# Altium schematic symbol library Analog Devices Amplifiers and Linear Voltage References.SchLib: 547 symbols (part 3 of 20)
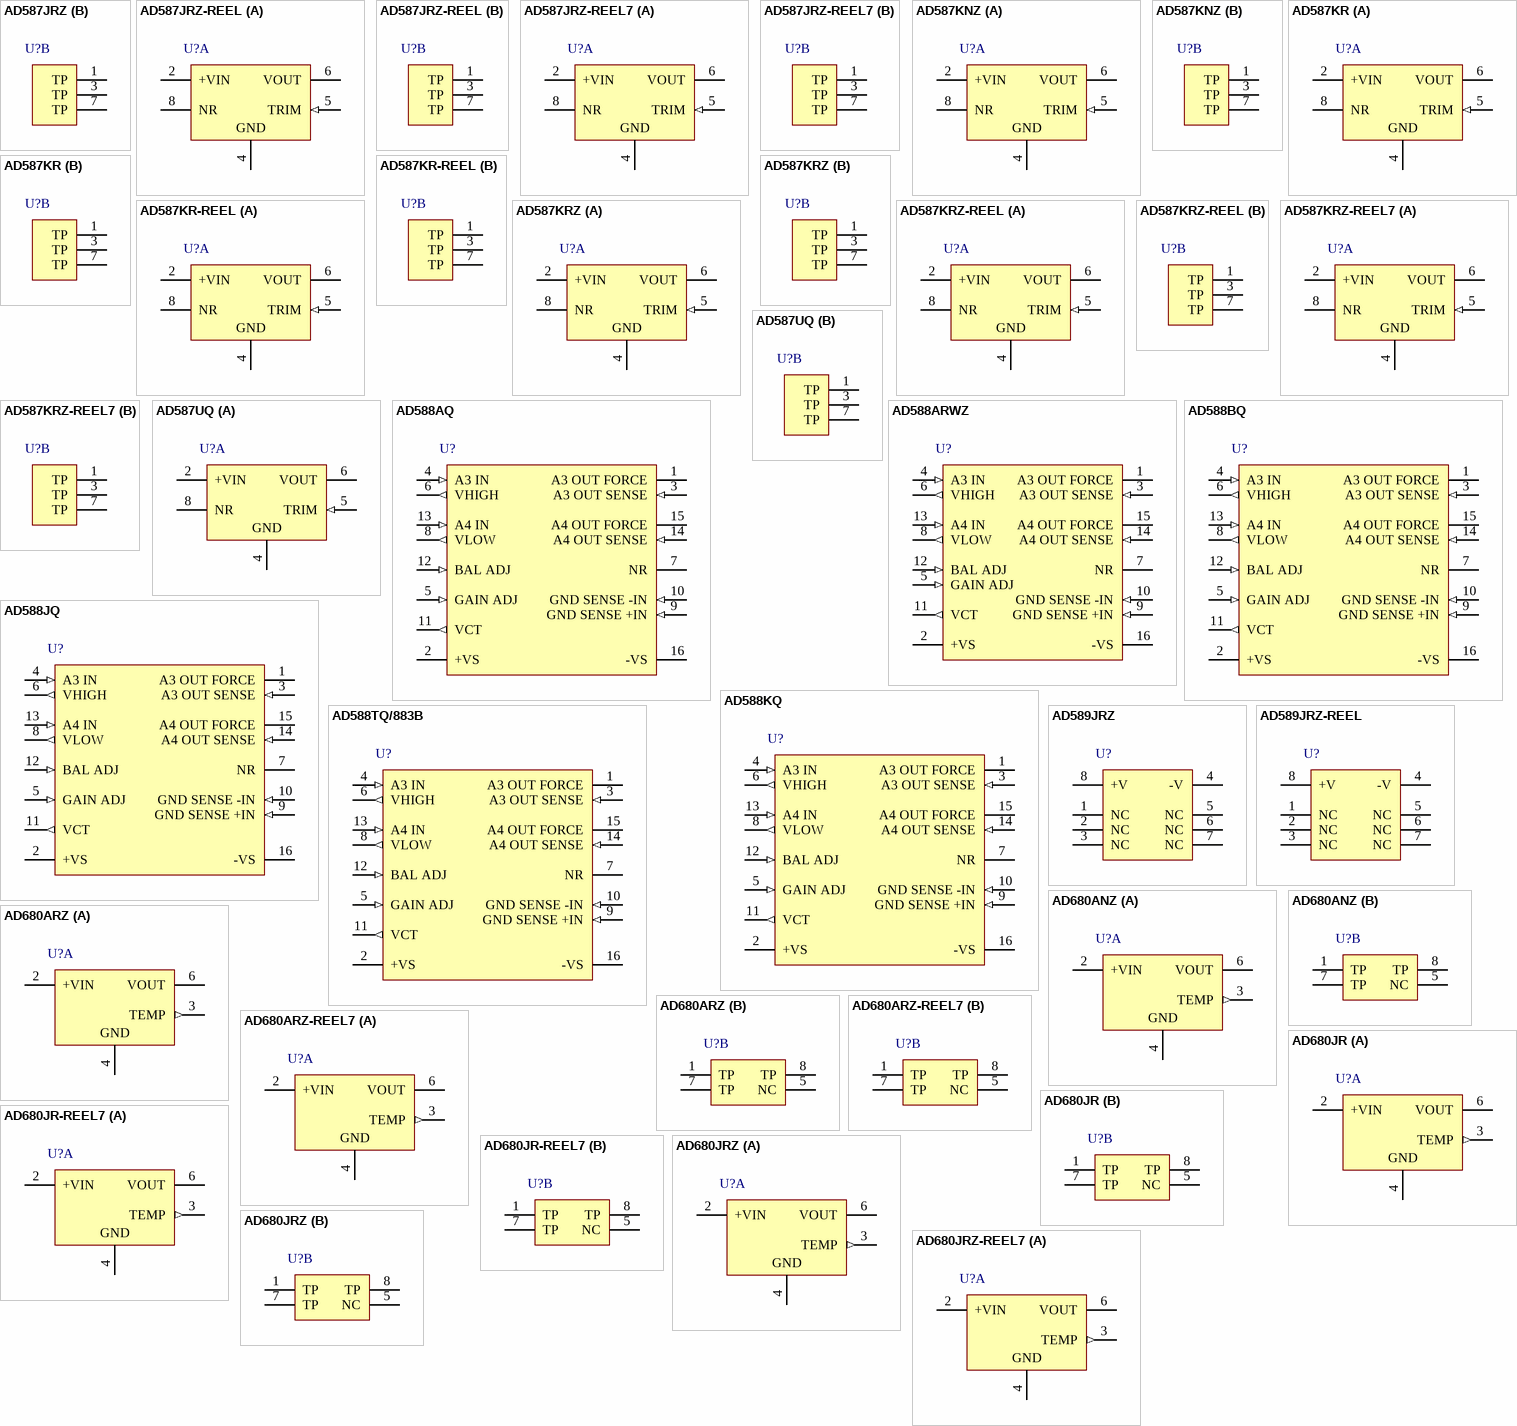
[diagram p22: symbols AD587JRZ to AD680JRZ-REEL7]

## AD588JQ
designator U?
Multiple Output, High Precision, Dual-Tracking Reference, + / - 10, + / - 5 V Output, + / - 15 V Supply, Commercial, 16-pin DIP (Q-16), Tube; Manufacturer: Analog Devices; PartNumber: AD588JQ; Ref Out TC (ppm/C): 3; Vout: +/-5V, +/-10V; DatasheetVersion: Rev. L; PackageVersion: Aug-05; PackageReference: Q-16; PackageDescription: 16-Pin Ceramic Dual In-Line Package, Row spacing 7.62 mm, Pitch 2.54 mm; Supplier 1: Digi-Key; Supplier Part Number 1: AD588JQ-ND; Supplier 2: Farnell; Supplier Part Number 2: 411700; Supplier 3: Mouser; Supplier Part Number 3: 584-AD588JQ; Packing: Tube; Operating Temp Range: 0 to 70 degC; Mounting Technology: Through Hole; ComponentLink1Description: Manufacturer URL; ComponentLink1URL: http://www.analog.com/en/index.html; ComponentLink2Description: Datasheet; ComponentLink2URL: http://www.analog.com/static/imported-files/data_sheets/AD588.pdf; ComponentLink3Description: Package Specification; ComponentLink3URL: http://www.analog.com/static/imported-files/packages/54083157002221Q_16.pdf; ComponentLink4Description: URL Link1; ComponentLink4URL: Product URL:http://www.analog.com/en/special-linear-functions/voltage-references/ad588/products/product.html
footprint ADI-Q-16 (DIP, 16-Leads, Body 21.34x6.73mm, Pitch 2.54mm)
pins: 1 A3 OUT FORCE (power) "Output from Buffering Amplifier 3 with Kelvin Force. Connect to Pin 3.", 2 +VS (power) "Positive Power Supply.", 3 A3 OUT SENSE (in) "Output from Buffering Amplifier 3 with Kelvin Sense. Connect to Pin 1.", 4 A3 IN (in) "+ Input to Amplifier 3. Connect to VHIGH, Pin 6.", 5 GAIN ADJ (in) "Reference Gain Adjustment for Calibration. See the Calibration section.", 6 VHIGH (out) "Unbuffered Reference High Output.", 7 NR "Noise Filtering Pin. Connect external 1 uF capacitor to ground to reduce the output noise (see the Noise Performance and Reduction section). Can be left open.", 8 VLOW (out) "Unbuffered Reference Low Output.", 9 GND SENSE +IN (in) "+ Input to the Ground Sense Amplifier.", 10 GND SENSE -IN (in) "- Input to the Ground Sense Amplifier.", 11 VCT (out) "Center Tap Voltage used for Calibration. See the Calibration section.", 12 BAL ADJ (in) "Reference Centering Adjustment for Calibration. See the Calibration section.", 13 A4 IN (in) "+ Input to Amplifier 4. Connect to VLOW, Pin 8.", 14 A4 OUT SENSE (in) "Output of Buffering Amplifier 4 with Kelvin Sense. Connect to Pin 15.", 15 A4 OUT FORCE (power) "Output of Buffering Amplifier 4 with Kelvin Force. Connect to Pin 14.", 16 -VS (power) "Negative Power Supply."

## AD588KQ
designator U?
Multiple Output, High Precision, Dual-Tracking Reference, + / - 10, + / - 5 V Output, + / - 15 V Supply, Commercial, 16-pin DIP (Q-16), Tube; Manufacturer: Analog Devices; PartNumber: AD588KQ; Ref Out TC (ppm/C): 1.5; Vout: +/-5V, +/-10V; DatasheetVersion: Rev. L; PackageVersion: Aug-05; PackageReference: Q-16; PackageDescription: 16-Pin Ceramic Dual In-Line Package, Row spacing 7.62 mm, Pitch 2.54 mm; Supplier 1: Digi-Key; Supplier Part Number 1: AD588KQ-ND; Supplier 2: Mouser; Supplier Part Number 2: 584-AD588KQ; Packing: Tube; Operating Temp Range: 0 to 70 degC; Mounting Technology: Through Hole; ComponentLink1Description: Manufacturer URL; ComponentLink1URL: http://www.analog.com/en/index.html; ComponentLink2Description: Datasheet; ComponentLink2URL: http://www.analog.com/static/imported-files/data_sheets/AD588.pdf; ComponentLink3Description: Package Specification; ComponentLink3URL: http://www.analog.com/static/imported-files/packages/54083157002221Q_16.pdf; ComponentLink4Description: URL Link1; ComponentLink4URL: Product URL:http://www.analog.com/en/special-linear-functions/voltage-references/ad588/products/product.html
footprint ADI-Q-16 (DIP, 16-Leads, Body 21.34x6.73mm, Pitch 2.54mm)
pins: 1 A3 OUT FORCE (power) "Output from Buffering Amplifier 3 with Kelvin Force. Connect to Pin 3.", 2 +VS (power) "Positive Power Supply.", 3 A3 OUT SENSE (in) "Output from Buffering Amplifier 3 with Kelvin Sense. Connect to Pin 1.", 4 A3 IN (in) "+ Input to Amplifier 3. Connect to VHIGH, Pin 6.", 5 GAIN ADJ (in) "Reference Gain Adjustment for Calibration. See the Calibration section.", 6 VHIGH (out) "Unbuffered Reference High Output.", 7 NR "Noise Filtering Pin. Connect external 1 uF capacitor to ground to reduce the output noise (see the Noise Performance and Reduction section). Can be left open.", 8 VLOW (out) "Unbuffered Reference Low Output.", 9 GND SENSE +IN (in) "+ Input to the Ground Sense Amplifier.", 10 GND SENSE -IN (in) "- Input to the Ground Sense Amplifier.", 11 VCT (out) "Center Tap Voltage used for Calibration. See the Calibration section.", 12 BAL ADJ (in) "Reference Centering Adjustment for Calibration. See the Calibration section.", 13 A4 IN (in) "+ Input to Amplifier 4. Connect to VLOW, Pin 8.", 14 A4 OUT SENSE (in) "Output of Buffering Amplifier 4 with Kelvin Sense. Connect to Pin 15.", 15 A4 OUT FORCE (power) "Output of Buffering Amplifier 4 with Kelvin Force. Connect to Pin 14.", 16 -VS (power) "Negative Power Supply."

## AD588TQ/883B
designator U?
Multiple Output, High Precision, Dual-Tracking Reference, + / - 10, + / - 5 V Output, + / - 15 V Supply, Military, 16-pin DIP (Q-16), Tube; Manufacturer: Analog Devices; PartNumber: AD588TQ/883B; Vout: +/-5V, +/-10V; DatasheetVersion: Rev. L; PackageVersion: Aug-05; PackageReference: Q-16; PackageDescription: 16-Pin Ceramic Dual In-Line Package, Row spacing 7.62 mm, Pitch 2.54 mm; Supplier 1: Mouser; Supplier Part Number 1: 584-AD588TQ883B; Packing: Tube; Mounting Technology: Through Hole; ComponentLink1Description: Manufacturer URL; ComponentLink1URL: http://www.analog.com/en/index.html; ComponentLink2Description: Datasheet; ComponentLink2URL: http://www.analog.com/static/imported-files/data_sheets/AD588.pdf; ComponentLink3Description: Package Specification; ComponentLink3URL: http://www.analog.com/static/imported-files/packages/54083157002221Q_16.pdf; ComponentLink4Description: URL Link1; ComponentLink4URL: Product URL:http://www.analog.com/en/special-linear-functions/voltage-references/ad588/products/product.html
footprint ADI-Q-16 (DIP, 16-Leads, Body 21.34x6.73mm, Pitch 2.54mm)
pins: 1 A3 OUT FORCE (power) "Output from Buffering Amplifier 3 with Kelvin Force. Connect to Pin 3.", 2 +VS (power) "Positive Power Supply.", 3 A3 OUT SENSE (in) "Output from Buffering Amplifier 3 with Kelvin Sense. Connect to Pin 1.", 4 A3 IN (in) "+ Input to Amplifier 3. Connect to VHIGH, Pin 6.", 5 GAIN ADJ (in) "Reference Gain Adjustment for Calibration. See the Calibration section.", 6 VHIGH (out) "Unbuffered Reference High Output.", 7 NR "Noise Filtering Pin. Connect external 1 uF capacitor to ground to reduce the output noise (see the Noise Performance and Reduction section). Can be left open.", 8 VLOW (out) "Unbuffered Reference Low Output.", 9 GND SENSE +IN (in) "+ Input to the Ground Sense Amplifier.", 10 GND SENSE -IN (in) "- Input to the Ground Sense Amplifier.", 11 VCT (out) "Center Tap Voltage used for Calibration. See the Calibration section.", 12 BAL ADJ (in) "Reference Centering Adjustment for Calibration. See the Calibration section.", 13 A4 IN (in) "+ Input to Amplifier 4. Connect to VLOW, Pin 8.", 14 A4 OUT SENSE (in) "Output of Buffering Amplifier 4 with Kelvin Sense. Connect to Pin 15.", 15 A4 OUT FORCE (power) "Output of Buffering Amplifier 4 with Kelvin Force. Connect to Pin 14.", 16 -VS (power) "Negative Power Supply."

## AD589JRZ
designator U?
2-Terminal IC 1.2 V Reference, 1.235 V Output, Commercial, 8-pin SOIC (R-8), Tube; Manufacturer: Analog Devices; PartNumber: AD589JRZ; Ref Out TC (ppm/C): 100; Vout: 1.235V; DatasheetVersion: Rev. C; PackageVersion: 060506-A, 06/2006; PackageReference: R-8; PackageDescription: 8-Pin Standard Small Outline Package, Body 4.9 x 3.9 mm, Pitch 1.27 mm; Supplier 1: Digi-Key; Supplier Part Number 1: AD589JRZ-ND; Supplier 2: Mouser; Supplier Part Number 2: 584-AD589JRZ; Packing: Tube; Operating Temp Range: 0 to 70 degC; Mounting Technology: Surface Mount; Code_JEDEC: MS-012-AA; ComponentLink1Description: Manufacturer URL; ComponentLink1URL: http://www.analog.com/en/index.html; ComponentLink2Description: Datasheet; ComponentLink2URL: http://www.analog.com/static/imported-files/data_sheets/AD589.pdf; ComponentLink3Description: Package Specification; ComponentLink3URL: http://www.analog.com/static/imported-files/packages/PKG_PDF/SOIC_Narrow%20(R)/R_8.pdf; ComponentLink4Description: URL Link1; ComponentLink4URL: Product URL:http://www.analog.com/en/special-linear-functions/voltage-references/ad589/products/product.html
footprint ADI-R-8_N (SOIC, 8-Leads, Body 4.9x3.9mm, Pitch 1.27mm, IPC Medium Density)
footprint ADI-R-8_L (SOIC, 8-Leads, Body 4.9x3.9mm, Pitch 1.27mm, IPC High Density)
footprint ADI-R-8_M (SOIC, 8-Leads, Body 4.9x3.9mm, Pitch 1.27mm, IPC Low Density)
pins: 1 NC, 2 NC, 3 NC, 4 -V (power), 5 NC, 6 NC, 7 NC, 8 +V (power)

## AD589JRZ-REEL
designator U?
2-Terminal IC 1.2 V Reference, 1.235 V Output, Commercial, 8-pin SOIC (R-8), Reel; Manufacturer: Analog Devices; PartNumber: AD589JRZ-REEL; Ref Out TC (ppm/C): 100; Vout: 1.235V; DatasheetVersion: Rev. C; PackageVersion: 060506-A, 06/2006; PackageReference: R-8; PackageDescription: 8-Pin Standard Small Outline Package, Body 4.9 x 3.9 mm, Pitch 1.27 mm; Supplier 1: Digi-Key; Supplier Part Number 1: AD589JRZ-REELTR-ND; Supplier 2: Digi-Key; Supplier Part Number 2: AD589JRZ-REELCT-ND; Supplier 3: Digi-Key; Supplier Part Number 3: AD589JRZ-REELDKR-ND; Supplier 4: Mouser; Supplier Part Number 4: 584-AD589JRZ-R; Packing: Reel; Operating Temp Range: 0 to 70 degC; Mounting Technology: Surface Mount; Code_JEDEC: MS-012-AA; ComponentLink1Description: Manufacturer URL; ComponentLink1URL: http://www.analog.com/en/index.html; ComponentLink2Description: Datasheet; ComponentLink2URL: http://www.analog.com/static/imported-files/data_sheets/AD589.pdf; ComponentLink3Description: Package Specification; ComponentLink3URL: http://www.analog.com/static/imported-files/packages/PKG_PDF/SOIC_Narrow%20(R)/R_8.pdf; ComponentLink4Description: URL Link1; ComponentLink4URL: Product URL:http://www.analog.com/en/special-linear-functions/voltage-references/ad589/products/product.html
footprint ADI-R-8_N (SOIC, 8-Leads, Body 4.9x3.9mm, Pitch 1.27mm, IPC Medium Density)
footprint ADI-R-8_L (SOIC, 8-Leads, Body 4.9x3.9mm, Pitch 1.27mm, IPC High Density)
footprint ADI-R-8_M (SOIC, 8-Leads, Body 4.9x3.9mm, Pitch 1.27mm, IPC Low Density)
pins: 1 NC, 2 NC, 3 NC, 4 -V (power), 5 NC, 6 NC, 7 NC, 8 +V (power)

## AD680ANZ
designator U?
Low Power, Low Cost Reference, 2.5 V Output, 4.5 to 36 V Supply, Industrial, 8-pin DIP (N-8), Tube; Manufacturer: Analog Devices; PartNumber: AD680ANZ; Max V Supply (V): 36; Min V Supply (V): 4.5; Ref Out TC (ppm/C): 20; Vout: 2.5V; DatasheetVersion: Rev. H; PackageVersion: 070606-A, 07/2006; PackageReference: N-8; PackageDescription: 8-Pin Plastic Dual In-Line Package, Row spacing 7.62 mm, Pitch 2.54 mm; Supplier 1: Digi-Key; Supplier Part Number 1: AD680ANZ-ND; Supplier 2: Farnell; Supplier Part Number 2: 2305766; Supplier 3: Mouser; Supplier Part Number 3: 584-AD680ANZ; Packing: Tube; Operating Temp Range: -40 to 85 degC; Mounting Technology: Through Hole; Code_JEDEC: MS-001; ComponentLink1Description: Manufacturer URL; ComponentLink1URL: http://www.analog.com/en/index.html; ComponentLink2Description: Datasheet; ComponentLink2URL: http://www.analog.com/static/imported-files/data_sheets/AD680.pdf; ComponentLink3Description: Package Specification; ComponentLink3URL: http:/www.analog.com/static/imported-files/packages/PKG_PDF/PDIP(N)/N_8.pdf; ComponentLink4Description: URL Link1; ComponentLink4URL: Product URL:http://www.analog.com/en/special-linear-functions/voltage-references/ad680/products/product.html
footprint ADI-N-8 (DIP, 8-Leads, Body 9.59x6.6mm, Pitch 2.54mm)
part A pins: 2 +VIN (power) "Input Voltage.", 3 TEMP (out) "Temperature Output.", 4 GND (power) "Ground.", 6 VOUT (power) "Output Voltage."
part B pins: 1 TP "Test Point. A factory test point. No connections are made to these pins.", 5 NC "No Connect.", 7 TP "Test Point. A factory test point. No connections are made to these pins.", 8 TP "Test Point. A factory test point. No connections are made to these pins."

## AD680ARZ
designator U?
Low Power, Low Cost Reference, 2.5 V Output, 4.5 to 36 V Supply, Industrial, 8-pin SOIC (R-8), Tube; Manufacturer: Analog Devices; PartNumber: AD680ARZ; Max V Supply (V): 36; Min V Supply (V): 4.5; Ref Out TC (ppm/C): 20; Vout: 2.5V; DatasheetVersion: Rev. H; PackageVersion: 060506-A, 06/2006; PackageReference: R-8; PackageDescription: 8-Pin Standard Small Outline Package, Body 4.9 x 3.9 mm, Pitch 1.27 mm; Supplier 1: Digi-Key; Supplier Part Number 1: AD680ARZ-ND; Supplier 2: Farnell; Supplier Part Number 2: 1838916; Supplier 3: Mouser; Supplier Part Number 3: 584-AD680ARZ; Packing: Tube; Operating Temp Range: -40 to 85 degC; Mounting Technology: Surface Mount; Code_JEDEC: MS-012-AA; ComponentLink1Description: Manufacturer URL; ComponentLink1URL: http://www.analog.com/en/index.html; ComponentLink2Description: Datasheet; ComponentLink2URL: http://www.analog.com/static/imported-files/data_sheets/AD680.pdf; ComponentLink3Description: Package Specification; ComponentLink3URL: http://www.analog.com/static/imported-files/packages/PKG_PDF/SOIC_Narrow%20(R)/R_8.pdf; ComponentLink4Description: URL Link1; ComponentLink4URL: Product URL:http://www.analog.com/en/special-linear-functions/voltage-references/ad680/products/product.html
footprint ADI-R-8_N (SOIC, 8-Leads, Body 4.9x3.9mm, Pitch 1.27mm, IPC Medium Density)
footprint ADI-R-8_L (SOIC, 8-Leads, Body 4.9x3.9mm, Pitch 1.27mm, IPC High Density)
footprint ADI-R-8_M (SOIC, 8-Leads, Body 4.9x3.9mm, Pitch 1.27mm, IPC Low Density)
part A pins: 2 +VIN (power) "Input Voltage.", 3 TEMP (out) "Temperature Output.", 4 GND (power) "Ground.", 6 VOUT (power) "Output Voltage."
part B pins: 1 TP "Test Point. A factory test point. No connections are made to these pins.", 5 NC "No Connect.", 7 TP "Test Point. A factory test point. No connections are made to these pins.", 8 TP "Test Point. A factory test point. No connections are made to these pins."

## AD680ARZ-REEL7
designator U?
Low Power, Low Cost Reference, 2.5 V Output, 4.5 to 36 V Supply, Industrial, 8-pin SOIC (R-8), Reel; Manufacturer: Analog Devices; PartNumber: AD680ARZ-REEL7; Max V Supply (V): 36; Min V Supply (V): 4.5; Ref Out TC (ppm/C): 20; Vout: 2.5V; DatasheetVersion: Rev. H; PackageVersion: 060506-A, 06/2006; PackageReference: R-8; PackageDescription: 8-Pin Standard Small Outline Package, Body 4.9 x 3.9 mm, Pitch 1.27 mm; Supplier 1: Digi-Key; Supplier Part Number 1: AD680ARZ-REEL7TR-ND; Supplier 2: Digi-Key; Supplier Part Number 2: AD680ARZ-REEL7CT-ND; Supplier 3: Digi-Key; Supplier Part Number 3: AD680ARZ-REEL7DKR-ND; Supplier 4: Mouser; Supplier Part Number 4: 584-AD680ARZ-R7; Packing: Reel; Operating Temp Range: -40 to 85 degC; Mounting Technology: Surface Mount; Code_JEDEC: MS-012-AA; ComponentLink1Description: Manufacturer URL; ComponentLink1URL: http://www.analog.com/en/index.html; ComponentLink2Description: Datasheet; ComponentLink2URL: http://www.analog.com/static/imported-files/data_sheets/AD680.pdf; ComponentLink3Description: Package Specification; ComponentLink3URL: http://www.analog.com/static/imported-files/packages/PKG_PDF/SOIC_Narrow%20(R)/R_8.pdf; ComponentLink4Description: URL Link1; ComponentLink4URL: Product URL:http://www.analog.com/en/special-linear-functions/voltage-references/ad680/products/product.html
footprint ADI-R-8_N (SOIC, 8-Leads, Body 4.9x3.9mm, Pitch 1.27mm, IPC Medium Density)
footprint ADI-R-8_L (SOIC, 8-Leads, Body 4.9x3.9mm, Pitch 1.27mm, IPC High Density)
footprint ADI-R-8_M (SOIC, 8-Leads, Body 4.9x3.9mm, Pitch 1.27mm, IPC Low Density)
part A pins: 2 +VIN (power) "Input Voltage.", 3 TEMP (out) "Temperature Output.", 4 GND (power) "Ground.", 6 VOUT (power) "Output Voltage."
part B pins: 1 TP "Test Point. A factory test point. No connections are made to these pins.", 5 NC "No Connect.", 7 TP "Test Point. A factory test point. No connections are made to these pins.", 8 TP "Test Point. A factory test point. No connections are made to these pins."

## AD680JR
designator U?
Low Power, Low Cost Reference, 2.5 V Output, 4.5 to 36 V Supply, Commercial, 8-pin SOIC (R-8), Tube; Manufacturer: Analog Devices; PartNumber: AD680JR; Max V Supply (V): 36; Min V Supply (V): 4.5; Ref Out TC (ppm/C): 10; Vout: 2.5V; DatasheetVersion: Rev. H; PackageVersion: 060506-A, 06/2006; PackageReference: R-8; PackageDescription: 8-Pin Standard Small Outline Package, Body 4.9 x 3.9 mm, Pitch 1.27 mm; Supplier 1: Digi-Key; Supplier Part Number 1: AD680JR-ND; Supplier 2: Farnell; Supplier Part Number 2: 1017960; Supplier 3: Mouser; Supplier Part Number 3: N/A; Packing: Tube; Operating Temp Range: 0 to 70 degC; Mounting Technology: Surface Mount; Code_JEDEC: MS-012-AA; ComponentLink1Description: Manufacturer URL; ComponentLink1URL: http://www.analog.com/en/index.html; ComponentLink2Description: Datasheet; ComponentLink2URL: http://www.analog.com/static/imported-files/data_sheets/AD680.pdf; ComponentLink3Description: Package Specification; ComponentLink3URL: http://www.analog.com/static/imported-files/packages/PKG_PDF/SOIC_Narrow%20(R)/R_8.pdf; ComponentLink4Description: URL Link1; ComponentLink4URL: Product URL:http://www.analog.com/en/special-linear-functions/voltage-references/ad680/products/product.html
footprint ADI-R-8_N (SOIC, 8-Leads, Body 4.9x3.9mm, Pitch 1.27mm, IPC Medium Density)
footprint ADI-R-8_L (SOIC, 8-Leads, Body 4.9x3.9mm, Pitch 1.27mm, IPC High Density)
footprint ADI-R-8_M (SOIC, 8-Leads, Body 4.9x3.9mm, Pitch 1.27mm, IPC Low Density)
part A pins: 2 +VIN (power) "Input Voltage.", 3 TEMP (out) "Temperature Output.", 4 GND (power) "Ground.", 6 VOUT (power) "Output Voltage."
part B pins: 1 TP "Test Point. A factory test point. No connections are made to these pins.", 5 NC "No Connect.", 7 TP "Test Point. A factory test point. No connections are made to these pins.", 8 TP "Test Point. A factory test point. No connections are made to these pins."

## AD680JR-REEL7
designator U?
Low Power, Low Cost Reference, 2.5 V Output, 4.5 to 36 V Supply, Commercial, 8-pin SOIC (R-8), Reel; Manufacturer: Analog Devices; PartNumber: AD680JR-REEL7; Max V Supply (V): 36; Min V Supply (V): 4.5; Ref Out TC (ppm/C): 10; Vout: 2.5V; DatasheetVersion: Rev. H; PackageVersion: 060506-A, 06/2006; PackageReference: R-8; PackageDescription: 8-Pin Standard Small Outline Package, Body 4.9 x 3.9 mm, Pitch 1.27 mm; Supplier 1: Digi-Key; Supplier Part Number 1: AD680JR-REEL7TR-ND; Supplier 2: Digi-Key; Supplier Part Number 2: AD680JR-REEL7CT-ND; Supplier 3: Digi-Key; Supplier Part Number 3: AD680JR-REEL7DKR-ND; Supplier 4: Mouser; Supplier Part Number 4: N/A; Packing: Reel; Operating Temp Range: 0 to 70 degC; Mounting Technology: Surface Mount; Code_JEDEC: MS-012-AA; ComponentLink1Description: Manufacturer URL; ComponentLink1URL: http://www.analog.com/en/index.html; ComponentLink2Description: Datasheet; ComponentLink2URL: http://www.analog.com/static/imported-files/data_sheets/AD680.pdf; ComponentLink3Description: Package Specification; ComponentLink3URL: http://www.analog.com/static/imported-files/packages/PKG_PDF/SOIC_Narrow%20(R)/R_8.pdf; ComponentLink4Description: URL Link1; ComponentLink4URL: Product URL:http://www.analog.com/en/special-linear-functions/voltage-references/ad680/products/product.html
footprint ADI-R-8_N (SOIC, 8-Leads, Body 4.9x3.9mm, Pitch 1.27mm, IPC Medium Density)
footprint ADI-R-8_L (SOIC, 8-Leads, Body 4.9x3.9mm, Pitch 1.27mm, IPC High Density)
footprint ADI-R-8_M (SOIC, 8-Leads, Body 4.9x3.9mm, Pitch 1.27mm, IPC Low Density)
part A pins: 2 +VIN (power) "Input Voltage.", 3 TEMP (out) "Temperature Output.", 4 GND (power) "Ground.", 6 VOUT (power) "Output Voltage."
part B pins: 1 TP "Test Point. A factory test point. No connections are made to these pins.", 5 NC "No Connect.", 7 TP "Test Point. A factory test point. No connections are made to these pins.", 8 TP "Test Point. A factory test point. No connections are made to these pins."

## AD680JRZ
designator U?
Low Power, Low Cost Reference, 2.5 V Output, 4.5 to 36 V Supply, Commercial, 8-pin SOIC (R-8), Tube; Manufacturer: Analog Devices; PartNumber: AD680JRZ; Max V Supply (V): 36; Min V Supply (V): 4.5; Ref Out TC (ppm/C): 10; Vout: 2.5V; DatasheetVersion: Rev. H; PackageVersion: 060506-A, 06/2006; PackageReference: R-8; PackageDescription: 8-Pin Standard Small Outline Package, Body 4.9 x 3.9 mm, Pitch 1.27 mm; Supplier 1: Digi-Key; Supplier Part Number 1: AD680JRZ-ND; Supplier 2: Farnell; Supplier Part Number 2: 2305767; Supplier 3: Farnell; Supplier Part Number 3: 1264337; Supplier 4: Mouser; Supplier Part Number 4: 584-AD680JRZ; Packing: Tube; Operating Temp Range: 0 to 70 degC; Mounting Technology: Surface Mount; Code_JEDEC: MS-012-AA; ComponentLink1Description: Manufacturer URL; ComponentLink1URL: http://www.analog.com/en/index.html; ComponentLink2Description: Datasheet; ComponentLink2URL: http://www.analog.com/static/imported-files/data_sheets/AD680.pdf; ComponentLink3Description: Package Specification; ComponentLink3URL: http://www.analog.com/static/imported-files/packages/PKG_PDF/SOIC_Narrow%20(R)/R_8.pdf; ComponentLink4Description: URL Link1; ComponentLink4URL: Product URL:http://www.analog.com/en/special-linear-functions/voltage-references/ad680/products/product.html
footprint ADI-R-8_N (SOIC, 8-Leads, Body 4.9x3.9mm, Pitch 1.27mm, IPC Medium Density)
footprint ADI-R-8_L (SOIC, 8-Leads, Body 4.9x3.9mm, Pitch 1.27mm, IPC High Density)
footprint ADI-R-8_M (SOIC, 8-Leads, Body 4.9x3.9mm, Pitch 1.27mm, IPC Low Density)
part A pins: 2 +VIN (power) "Input Voltage.", 3 TEMP (out) "Temperature Output.", 4 GND (power) "Ground.", 6 VOUT (power) "Output Voltage."
part B pins: 1 TP "Test Point. A factory test point. No connections are made to these pins.", 5 NC "No Connect.", 7 TP "Test Point. A factory test point. No connections are made to these pins.", 8 TP "Test Point. A factory test point. No connections are made to these pins."

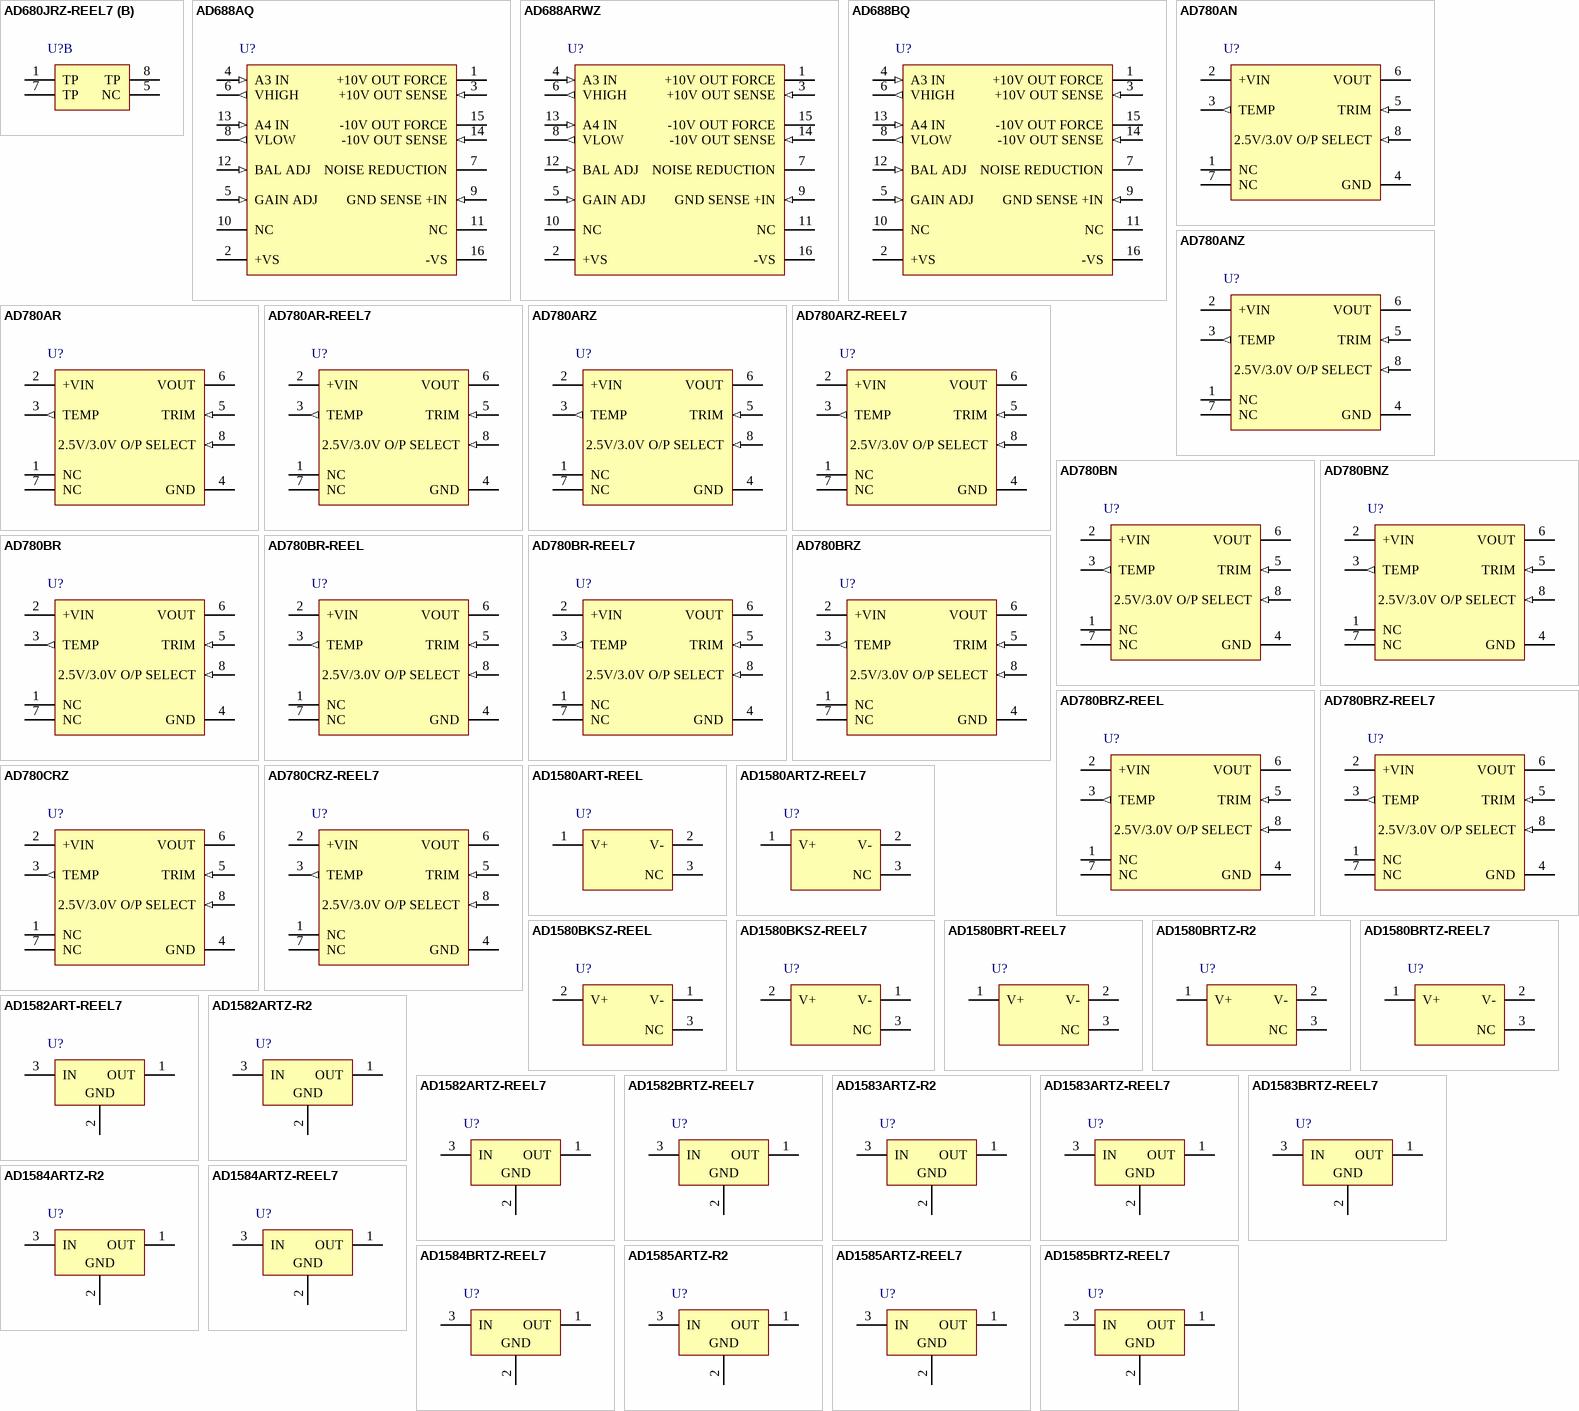
[diagram p3: symbols AD680JRZ-REEL7 to AD1585BRTZ-REEL7]

## AD680JRZ-REEL7
designator U?
Low Power, Low Cost Reference, 2.5 V Output, 4.5 to 36 V Supply, Commercial, 8-pin SOIC (R-8), Reel; Manufacturer: Analog Devices; PartNumber: AD680JRZ-REEL7; Max V Supply (V): 36; Min V Supply (V): 4.5; Ref Out TC (ppm/C): 10; Vout: 2.5V; DatasheetVersion: Rev. H; PackageVersion: 060506-A, 06/2006; PackageReference: R-8; PackageDescription: 8-Pin Standard Small Outline Package, Body 4.9 x 3.9 mm, Pitch 1.27 mm; Supplier 1: Digi-Key; Supplier Part Number 1: AD680JRZ-REEL7TR-ND; Supplier 2: Digi-Key; Supplier Part Number 2: AD680JRZ-REEL7CT-ND; Supplier 3: Digi-Key; Supplier Part Number 3: AD680JRZ-REEL7DKR-ND; Supplier 4: Mouser; Supplier Part Number 4: 584-AD680JRZ-R7; Packing: Reel; Operating Temp Range: 0 to 70 degC; Mounting Technology: Surface Mount; Code_JEDEC: MS-012-AA; ComponentLink1Description: Manufacturer URL; ComponentLink1URL: http://www.analog.com/en/index.html; ComponentLink2Description: Datasheet; ComponentLink2URL: http://www.analog.com/static/imported-files/data_sheets/AD680.pdf; ComponentLink3Description: Package Specification; ComponentLink3URL: http://www.analog.com/static/imported-files/packages/PKG_PDF/SOIC_Narrow%20(R)/R_8.pdf; ComponentLink4Description: URL Link1; ComponentLink4URL: Product URL:http://www.analog.com/en/special-linear-functions/voltage-references/ad680/products/product.html
footprint ADI-R-8_N (SOIC, 8-Leads, Body 4.9x3.9mm, Pitch 1.27mm, IPC Medium Density)
footprint ADI-R-8_L (SOIC, 8-Leads, Body 4.9x3.9mm, Pitch 1.27mm, IPC High Density)
footprint ADI-R-8_M (SOIC, 8-Leads, Body 4.9x3.9mm, Pitch 1.27mm, IPC Low Density)
part A pins: 2 +VIN (power) "Input Voltage.", 3 TEMP (out) "Temperature Output.", 4 GND (power) "Ground.", 6 VOUT (power) "Output Voltage."
part B pins: 1 TP "Test Point. A factory test point. No connections are made to these pins.", 5 NC "No Connect.", 7 TP "Test Point. A factory test point. No connections are made to these pins.", 8 TP "Test Point. A factory test point. No connections are made to these pins."

## AD688AQ
designator U?
High Precision Reference, 10 V Output, + / - 15 V Supply, Industrial, 16-pin DIP (Q-16), Tube; Manufacturer: Analog Devices; PartNumber: AD688AQ; Ref Out TC (ppm/C): 3; Vout: +/-10V; DatasheetVersion: Rev. B; PackageVersion: Aug-05; PackageReference: Q-16; PackageDescription: 16-Pin Ceramic Dual In-Line Package, Row spacing 7.62 mm, Pitch 2.54 mm; Supplier 1: Digi-Key; Supplier Part Number 1: AD688AQ-ND; Supplier 2: Farnell; Supplier Part Number 2: 2190205; Supplier 3: Mouser; Supplier Part Number 3: 584-AD688AQ; Packing: Tube; Operating Temp Range: -40 to 85 degC; Mounting Technology: Through Hole; ComponentLink1Description: Manufacturer URL; ComponentLink1URL: http://www.analog.com/en/index.html; ComponentLink2Description: Datasheet; ComponentLink2URL: http://www.analog.com/static/imported-files/data_sheets/AD688.pdf; ComponentLink3Description: Package Specification; ComponentLink3URL: http://www.analog.com/static/imported-files/packages/54083157002221Q_16.pdf; ComponentLink4Description: URL Link1; ComponentLink4URL: Product URL:http://www.analog.com/en/special-linear-functions/voltage-references/ad688/products/product.html
footprint ADI-Q-16 (DIP, 16-Leads, Body 21.34x6.73mm, Pitch 2.54mm)
pins: 1 +10V OUT FORCE (power) "+10 V Output with Kelvin Force. Connect to Pin 3.", 2 +VS (power) "Positive Power Supply.", 3 +10V OUT SENSE (in) "+10 V Output with Kelvin Sense. Connect to Pin 1.", 4 A3 IN (in) "+ Input to A3. Connect to VHIGH, Pin 6.", 5 GAIN ADJ (in) "Reference Gain Adjustment for Calibration. See the Calibration section.", 6 VHIGH (out) "Unbuffered Reference High Output.", 7 NOISE REDUCTION "Noise Filtering Pin. Connect external 1 uF capacitor to ground to reduce output noise, see the Noise Performance and Reduction section. May be left open.", 8 VLOW (out) "Unbuffered Reference Low Output.", 9 GND SENSE +IN (in) "Gound with Kelvin Sense.", 10 NC "No Connection. Leave floating.", 11 NC "No Connection. Leave floating.", 12 BAL ADJ (in) "Reference Centering Adjustment for Calibration. See the Calibration section.", 13 A4 IN (in) "+ Input to A4. Connect to VLOW, Pin 8.", 14 -10V OUT SENSE (in) "-10 V Output with Kelvin Sense. Connect to Pin 15.", 15 -10V OUT FORCE (power) "-10 V Output with Kelvin Force. Connect to Pin 14.", 16 -VS (power) "Negative Power Supply."

## AD688ARWZ
designator U?
High Precision Reference, 10 V Output, + / - 15 V Supply, Industrial, 16-pin SOIC (RW-16), Tube; Manufacturer: Analog Devices; PartNumber: AD688ARWZ; Ref Out TC (ppm/C): 8; Vout: +/-10V; DatasheetVersion: Rev. B; PackageVersion: 032707-B, 03/2007; PackageReference: RW-16; PackageDescription: 16-Pin Standard Small Outline Package, Body 10.3 x 7.5 mm, Pitch 1.27 mm; Supplier 1: Digi-Key; Supplier Part Number 1: AD688ARWZ-ND; Supplier 2: Farnell; Supplier Part Number 2: 1838918; Supplier 3: Mouser; Supplier Part Number 3: 584-AD688ARWZ; Packing: Tube; Operating Temp Range: -40 to 85 degC; Mounting Technology: Surface Mount; Code_JEDEC: MS-013-AA; ComponentLink1Description: Manufacturer URL; ComponentLink1URL: http://www.analog.com/en/index.html; ComponentLink2Description: Datasheet; ComponentLink2URL: http://www.analog.com/static/imported-files/data_sheets/AD688.pdf; ComponentLink3Description: Package Specification; ComponentLink3URL: http://www.analog.com/static/imported-files/packages/PKG_PDF/SOIC_WIDE%20%28RW%29/RW_16.pdf; ComponentLink4Description: URL Link1; ComponentLink4URL: Product URL:http://www.analog.com/en/special-linear-functions/voltage-references/ad688/products/product.html
footprint ADI-RW-16_N (SOIC, 16-Leads, Body 10.3x7.5mm, Pitch 1.27mm, IPC Medium Density)
footprint ADI-RW-16_L (SOIC, 16-Leads, Body 10.3x7.5mm, Pitch 1.27mm, IPC High Density)
footprint ADI-RW-16_M (SOIC, 16-Leads, Body 10.3x7.5mm, Pitch 1.27mm, IPC Low Density)
pins: 1 +10V OUT FORCE (power) "+10 V Output with Kelvin Force. Connect to Pin 3.", 2 +VS (power) "Positive Power Supply.", 3 +10V OUT SENSE (in) "+10 V Output with Kelvin Sense. Connect to Pin 1.", 4 A3 IN (in) "+ Input to A3. Connect to VHIGH, Pin 6.", 5 GAIN ADJ (in) "Reference Gain Adjustment for Calibration. See the Calibration section.", 6 VHIGH (out) "Unbuffered Reference High Output.", 7 NOISE REDUCTION "Noise Filtering Pin. Connect external 1 uF capacitor to ground to reduce output noise, see the Noise Performance and Reduction section. May be left open.", 8 VLOW (out) "Unbuffered Reference Low Output.", 9 GND SENSE +IN (in) "Gound with Kelvin Sense.", 10 NC "No Connection. Leave floating.", 11 NC "No Connection. Leave floating.", 12 BAL ADJ (in) "Reference Centering Adjustment for Calibration. See the Calibration section.", 13 A4 IN (in) "+ Input to A4. Connect to VLOW, Pin 8.", 14 -10V OUT SENSE (in) "-10 V Output with Kelvin Sense. Connect to Pin 15.", 15 -10V OUT FORCE (power) "-10 V Output with Kelvin Force. Connect to Pin 14.", 16 -VS (power) "Negative Power Supply."

## AD688BQ
designator U?
High Precision Reference, 10 V Output, + / - 15 V Supply, Industrial, 16-pin DIP (Q-16), Tube; Manufacturer: Analog Devices; PartNumber: AD688BQ; Ref Out TC (ppm/C): 3; Vout: +/-10V; DatasheetVersion: Rev. B; PackageVersion: Aug-05; PackageReference: Q-16; PackageDescription: 16-Pin Ceramic Dual In-Line Package, Row spacing 7.62 mm, Pitch 2.54 mm; Supplier 1: Digi-Key; Supplier Part Number 1: AD688BQ-ND; Supplier 2: Mouser; Supplier Part Number 2: 584-AD688BQ; Packing: Tube; Operating Temp Range: -40 to 85 degC; Mounting Technology: Through Hole; ComponentLink1Description: Manufacturer URL; ComponentLink1URL: http://www.analog.com/en/index.html; ComponentLink2Description: Datasheet; ComponentLink2URL: http://www.analog.com/static/imported-files/data_sheets/AD688.pdf; ComponentLink3Description: Package Specification; ComponentLink3URL: http://www.analog.com/static/imported-files/packages/54083157002221Q_16.pdf; ComponentLink4Description: URL Link1; ComponentLink4URL: Product URL:http://www.analog.com/en/special-linear-functions/voltage-references/ad688/products/product.html
footprint ADI-Q-16 (DIP, 16-Leads, Body 21.34x6.73mm, Pitch 2.54mm)
pins: 1 +10V OUT FORCE (power) "+10 V Output with Kelvin Force. Connect to Pin 3.", 2 +VS (power) "Positive Power Supply.", 3 +10V OUT SENSE (in) "+10 V Output with Kelvin Sense. Connect to Pin 1.", 4 A3 IN (in) "+ Input to A3. Connect to VHIGH, Pin 6.", 5 GAIN ADJ (in) "Reference Gain Adjustment for Calibration. See the Calibration section.", 6 VHIGH (out) "Unbuffered Reference High Output.", 7 NOISE REDUCTION "Noise Filtering Pin. Connect external 1 uF capacitor to ground to reduce output noise, see the Noise Performance and Reduction section. May be left open.", 8 VLOW (out) "Unbuffered Reference Low Output.", 9 GND SENSE +IN (in) "Gound with Kelvin Sense.", 10 NC "No Connection. Leave floating.", 11 NC "No Connection. Leave floating.", 12 BAL ADJ (in) "Reference Centering Adjustment for Calibration. See the Calibration section.", 13 A4 IN (in) "+ Input to A4. Connect to VLOW, Pin 8.", 14 -10V OUT SENSE (in) "-10 V Output with Kelvin Sense. Connect to Pin 15.", 15 -10V OUT FORCE (power) "-10 V Output with Kelvin Force. Connect to Pin 14.", 16 -VS (power) "Negative Power Supply."

## AD780AN
designator U?
High Precision Reference, 2.5 or 3 V Output, 4 to 36 V Supply, Industrial, 8-pin DIP (N-8), Tube; Manufacturer: Analog Devices; PartNumber: AD780AN; Max V Supply (V): 36; Min V Supply (V): 4; Ref Out TC (ppm/C): 7; Vout: 2.5V, 3V; DatasheetVersion: Rev. F; PackageVersion: 070606-A, 07/2006; PackageReference: N-8; PackageDescription: 8-Pin Plastic Dual In-Line Package, Row spacing 7.62 mm, Pitch 2.54 mm; Supplier 1: Digi-Key; Supplier Part Number 1: AD780AN-ND; Supplier 2: Mouser; Supplier Part Number 2: N/A; Packing: Tube; Operating Temp Range: -40 to 85 degC; Mounting Technology: Through Hole; Code_JEDEC: MS-001; ComponentLink1Description: Manufacturer URL; ComponentLink1URL: http://www.analog.com/en/index.html; ComponentLink2Description: Datasheet; ComponentLink2URL: http://www.analog.com/static/imported-files/data_sheets/AD780.pdf; ComponentLink3Description: Package Specification; ComponentLink3URL: http:/www.analog.com/static/imported-files/packages/PKG_PDF/PDIP(N)/N_8.pdf; ComponentLink4Description: URL Link1; ComponentLink4URL: Product URL:http://www.analog.com/en/special-linear-functions/voltage-references/ad780/products/product.html
footprint ADI-N-8 (DIP, 8-Leads, Body 9.59x6.6mm, Pitch 2.54mm)
pins: 1 NC, 2 +VIN (power), 3 TEMP (out), 4 GND (power), 5 TRIM (in), 6 VOUT (power), 7 NC, 8 2.5V/3.0V O/P SELECT (in)

## AD780ANZ
designator U?
High Precision Reference, 2.5 or 3 V Output, 4 to 36 V Supply, Industrial, 8-pin DIP (N-8), Tube; Manufacturer: Analog Devices; PartNumber: AD780ANZ; Max V Supply (V): 36; Min V Supply (V): 4; Ref Out TC (ppm/C): 7; Vout: 2.5V, 3V; DatasheetVersion: Rev. F; PackageVersion: 070606-A, 07/2006; PackageReference: N-8; PackageDescription: 8-Pin Plastic Dual In-Line Package, Row spacing 7.62 mm, Pitch 2.54 mm; Supplier 1: Digi-Key; Supplier Part Number 1: AD780ANZ-ND; Supplier 2: Farnell; Supplier Part Number 2: 9605550; Supplier 3: Mouser; Supplier Part Number 3: 584-AD780ANZ; Packing: Tube; Operating Temp Range: -40 to 85 degC; Mounting Technology: Through Hole; Code_JEDEC: MS-001; ComponentLink1Description: Manufacturer URL; ComponentLink1URL: http://www.analog.com/en/index.html; ComponentLink2Description: Datasheet; ComponentLink2URL: http://www.analog.com/static/imported-files/data_sheets/AD780.pdf; ComponentLink3Description: Package Specification; ComponentLink3URL: http:/www.analog.com/static/imported-files/packages/PKG_PDF/PDIP(N)/N_8.pdf; ComponentLink4Description: URL Link1; ComponentLink4URL: Product URL:http://www.analog.com/en/special-linear-functions/voltage-references/ad780/products/product.html
footprint ADI-N-8 (DIP, 8-Leads, Body 9.59x6.6mm, Pitch 2.54mm)
pins: 1 NC, 2 +VIN (power), 3 TEMP (out), 4 GND (power), 5 TRIM (in), 6 VOUT (power), 7 NC, 8 2.5V/3.0V O/P SELECT (in)

## AD780AR
designator U?
High Precision Reference, 2.5 or 3 V Output, 4 to 36 V Supply, Industrial, 8-pin SOIC (R-8), Tube; Manufacturer: Analog Devices; PartNumber: AD780AR; Max V Supply (V): 36; Min V Supply (V): 4; Ref Out TC (ppm/C): 7; Vout: 2.5V, 3V; DatasheetVersion: Rev. F; PackageVersion: 060506-A, 06/2006; PackageReference: R-8; PackageDescription: 8-Pin Standard Small Outline Package, Body 4.9 x 3.9 mm, Pitch 1.27 mm; Supplier 1: Digi-Key; Supplier Part Number 1: AD780AR-ND; Supplier 2: Mouser; Supplier Part Number 2: 584-AD780AR; Packing: Tube; Operating Temp Range: -40 to 85 degC; Mounting Technology: Surface Mount; Code_JEDEC: MS-012-AA; ComponentLink1Description: Manufacturer URL; ComponentLink1URL: http://www.analog.com/en/index.html; ComponentLink2Description: Datasheet; ComponentLink2URL: http://www.analog.com/static/imported-files/data_sheets/AD780.pdf; ComponentLink3Description: Package Specification; ComponentLink3URL: http://www.analog.com/static/imported-files/packages/PKG_PDF/SOIC_Narrow%20(R)/R_8.pdf; ComponentLink4Description: URL Link1; ComponentLink4URL: Product URL:http://www.analog.com/en/special-linear-functions/voltage-references/ad780/products/product.html
footprint ADI-R-8_N (SOIC, 8-Leads, Body 4.9x3.9mm, Pitch 1.27mm, IPC Medium Density)
footprint ADI-R-8_L (SOIC, 8-Leads, Body 4.9x3.9mm, Pitch 1.27mm, IPC High Density)
footprint ADI-R-8_M (SOIC, 8-Leads, Body 4.9x3.9mm, Pitch 1.27mm, IPC Low Density)
pins: 1 NC, 2 +VIN (power), 3 TEMP (out), 4 GND (power), 5 TRIM (in), 6 VOUT (power), 7 NC, 8 2.5V/3.0V O/P SELECT (in)

## AD780AR-REEL7
designator U?
High Precision Reference, 2.5 or 3 V Output, 4 to 36 V Supply, Industrial, 8-pin SOIC (R-8), Reel; Manufacturer: Analog Devices; PartNumber: AD780AR-REEL7; Max V Supply (V): 36; Min V Supply (V): 4; Ref Out TC (ppm/C): 7; Vout: 2.5V, 3V; DatasheetVersion: Rev. F; PackageVersion: 060506-A, 06/2006; PackageReference: R-8; PackageDescription: 8-Pin Standard Small Outline Package, Body 4.9 x 3.9 mm, Pitch 1.27 mm; Supplier 1: Digi-Key; Supplier Part Number 1: AD780AR-REEL7TR-ND; Supplier 2: Mouser; Supplier Part Number 2: 584-AD780AR-R7; Packing: Reel; Operating Temp Range: -40 to 85 degC; Mounting Technology: Surface Mount; Code_JEDEC: MS-012-AA; ComponentLink1Description: Manufacturer URL; ComponentLink1URL: http://www.analog.com/en/index.html; ComponentLink2Description: Datasheet; ComponentLink2URL: http://www.analog.com/static/imported-files/data_sheets/AD780.pdf; ComponentLink3Description: Package Specification; ComponentLink3URL: http://www.analog.com/static/imported-files/packages/PKG_PDF/SOIC_Narrow%20(R)/R_8.pdf; ComponentLink4Description: URL Link1; ComponentLink4URL: Product URL:http://www.analog.com/en/special-linear-functions/voltage-references/ad780/products/product.html
footprint ADI-R-8_N (SOIC, 8-Leads, Body 4.9x3.9mm, Pitch 1.27mm, IPC Medium Density)
footprint ADI-R-8_L (SOIC, 8-Leads, Body 4.9x3.9mm, Pitch 1.27mm, IPC High Density)
footprint ADI-R-8_M (SOIC, 8-Leads, Body 4.9x3.9mm, Pitch 1.27mm, IPC Low Density)
pins: 1 NC, 2 +VIN (power), 3 TEMP (out), 4 GND (power), 5 TRIM (in), 6 VOUT (power), 7 NC, 8 2.5V/3.0V O/P SELECT (in)

## AD780ARZ
designator U?
High Precision Reference, 2.5 or 3 V Output, 4 to 36 V Supply, Industrial, 8-pin SOIC (R-8), Tube; Manufacturer: Analog Devices; PartNumber: AD780ARZ; Max V Supply (V): 36; Min V Supply (V): 4; Ref Out TC (ppm/C): 7; Vout: 2.5V, 3V; DatasheetVersion: Rev. F; PackageVersion: 060506-A, 06/2006; PackageReference: R-8; PackageDescription: 8-Pin Standard Small Outline Package, Body 4.9 x 3.9 mm, Pitch 1.27 mm; Supplier 1: Digi-Key; Supplier Part Number 1: AD780ARZ-ND; Supplier 2: Mouser; Supplier Part Number 2: 584-AD780ARZ; Packing: Tube; Operating Temp Range: -40 to 85 degC; Mounting Technology: Surface Mount; Code_JEDEC: MS-012-AA; ComponentLink1Description: Manufacturer URL; ComponentLink1URL: http://www.analog.com/en/index.html; ComponentLink2Description: Datasheet; ComponentLink2URL: http://www.analog.com/static/imported-files/data_sheets/AD780.pdf; ComponentLink3Description: Package Specification; ComponentLink3URL: http://www.analog.com/static/imported-files/packages/PKG_PDF/SOIC_Narrow%20(R)/R_8.pdf; ComponentLink4Description: URL Link1; ComponentLink4URL: Product URL:http://www.analog.com/en/special-linear-functions/voltage-references/ad780/products/product.html
footprint ADI-R-8_N (SOIC, 8-Leads, Body 4.9x3.9mm, Pitch 1.27mm, IPC Medium Density)
footprint ADI-R-8_L (SOIC, 8-Leads, Body 4.9x3.9mm, Pitch 1.27mm, IPC High Density)
footprint ADI-R-8_M (SOIC, 8-Leads, Body 4.9x3.9mm, Pitch 1.27mm, IPC Low Density)
pins: 1 NC, 2 +VIN (power), 3 TEMP (out), 4 GND (power), 5 TRIM (in), 6 VOUT (power), 7 NC, 8 2.5V/3.0V O/P SELECT (in)

## AD780ARZ-REEL7
designator U?
High Precision Reference, 2.5 or 3 V Output, 4 to 36 V Supply, Industrial, 8-pin SOIC (R-8), Reel; Manufacturer: Analog Devices; PartNumber: AD780ARZ-REEL7; Max V Supply (V): 36; Min V Supply (V): 4; Ref Out TC (ppm/C): 7; Vout: 2.5V, 3V; DatasheetVersion: Rev. F; PackageVersion: 060506-A, 06/2006; PackageReference: R-8; PackageDescription: 8-Pin Standard Small Outline Package, Body 4.9 x 3.9 mm, Pitch 1.27 mm; Supplier 1: Digi-Key; Supplier Part Number 1: AD780ARZ-REEL7TR-ND; Supplier 2: Digi-Key; Supplier Part Number 2: AD780ARZ-REEL7CT-ND; Supplier 3: Digi-Key; Supplier Part Number 3: AD780ARZ-REEL7DKR-ND; Supplier 4: Mouser; Supplier Part Number 4: 584-AD780ARZ-R7; Packing: Reel; Operating Temp Range: -40 to 85 degC; Mounting Technology: Surface Mount; Code_JEDEC: MS-012-AA; ComponentLink1Description: Manufacturer URL; ComponentLink1URL: http://www.analog.com/en/index.html; ComponentLink2Description: Datasheet; ComponentLink2URL: http://www.analog.com/static/imported-files/data_sheets/AD780.pdf; ComponentLink3Description: Package Specification; ComponentLink3URL: http://www.analog.com/static/imported-files/packages/PKG_PDF/SOIC_Narrow%20(R)/R_8.pdf; ComponentLink4Description: URL Link1; ComponentLink4URL: Product URL:http://www.analog.com/en/special-linear-functions/voltage-references/ad780/products/product.html
footprint ADI-R-8_N (SOIC, 8-Leads, Body 4.9x3.9mm, Pitch 1.27mm, IPC Medium Density)
footprint ADI-R-8_L (SOIC, 8-Leads, Body 4.9x3.9mm, Pitch 1.27mm, IPC High Density)
footprint ADI-R-8_M (SOIC, 8-Leads, Body 4.9x3.9mm, Pitch 1.27mm, IPC Low Density)
pins: 1 NC, 2 +VIN (power), 3 TEMP (out), 4 GND (power), 5 TRIM (in), 6 VOUT (power), 7 NC, 8 2.5V/3.0V O/P SELECT (in)

## AD780BN
designator U?
High Precision Reference, 2.5 or 3 V Output, 4 to 36 V Supply, Industrial, 8-pin DIP (N-8), Tube; Manufacturer: Analog Devices; PartNumber: AD780BN; Max V Supply (V): 36; Min V Supply (V): 4; Ref Out TC (ppm/C): 3; Vout: 2.5V, 3V; DatasheetVersion: Rev. F; PackageVersion: 070606-A, 07/2006; PackageReference: N-8; PackageDescription: 8-Pin Plastic Dual In-Line Package, Row spacing 7.62 mm, Pitch 2.54 mm; Supplier 1: Digi-Key; Supplier Part Number 1: AD780BN-ND; Supplier 2: Mouser; Supplier Part Number 2: N/A; Packing: Tube; Operating Temp Range: -40 to 85 degC; Mounting Technology: Through Hole; Code_JEDEC: MS-001; ComponentLink1Description: Manufacturer URL; ComponentLink1URL: http://www.analog.com/en/index.html; ComponentLink2Description: Datasheet; ComponentLink2URL: http://www.analog.com/static/imported-files/data_sheets/AD780.pdf; ComponentLink3Description: Package Specification; ComponentLink3URL: http:/www.analog.com/static/imported-files/packages/PKG_PDF/PDIP(N)/N_8.pdf; ComponentLink4Description: URL Link1; ComponentLink4URL: Product URL:http://www.analog.com/en/special-linear-functions/voltage-references/ad780/products/product.html
footprint ADI-N-8 (DIP, 8-Leads, Body 9.59x6.6mm, Pitch 2.54mm)
pins: 1 NC, 2 +VIN (power), 3 TEMP (out), 4 GND (power), 5 TRIM (in), 6 VOUT (power), 7 NC, 8 2.5V/3.0V O/P SELECT (in)

## AD780BNZ
designator U?
High Precision Reference, 2.5 or 3 V Output, 4 to 36 V Supply, Industrial, 8-pin DIP (N-8), Tube; Manufacturer: Analog Devices; PartNumber: AD780BNZ; Max V Supply (V): 36; Min V Supply (V): 4; Ref Out TC (ppm/C): 3; Vout: 2.5V, 3V; DatasheetVersion: Rev. F; PackageVersion: 070606-A, 07/2006; PackageReference: N-8; PackageDescription: 8-Pin Plastic Dual In-Line Package, Row spacing 7.62 mm, Pitch 2.54 mm; Supplier 1: Digi-Key; Supplier Part Number 1: AD780BNZ-ND; Supplier 2: Farnell; Supplier Part Number 2: 1438532; Supplier 3: Mouser; Supplier Part Number 3: 584-AD780BNZ; Packing: Tube; Operating Temp Range: -40 to 85 degC; Mounting Technology: Through Hole; Code_JEDEC: MS-001; ComponentLink1Description: Manufacturer URL; ComponentLink1URL: http://www.analog.com/en/index.html; ComponentLink2Description: Datasheet; ComponentLink2URL: http://www.analog.com/static/imported-files/data_sheets/AD780.pdf; ComponentLink3Description: Package Specification; ComponentLink3URL: http:/www.analog.com/static/imported-files/packages/PKG_PDF/PDIP(N)/N_8.pdf; ComponentLink4Description: URL Link1; ComponentLink4URL: Product URL:http://www.analog.com/en/special-linear-functions/voltage-references/ad780/products/product.html
footprint ADI-N-8 (DIP, 8-Leads, Body 9.59x6.6mm, Pitch 2.54mm)
pins: 1 NC, 2 +VIN (power), 3 TEMP (out), 4 GND (power), 5 TRIM (in), 6 VOUT (power), 7 NC, 8 2.5V/3.0V O/P SELECT (in)

## AD780BR
designator U?
High Precision Reference, 2.5 or 3 V Output, 4 to 36 V Supply, Industrial, 8-pin SOIC (R-8), Tube; Manufacturer: Analog Devices; PartNumber: AD780BR; Max V Supply (V): 36; Min V Supply (V): 4; Ref Out TC (ppm/C): 3; Vout: 2.5V, 3V; DatasheetVersion: Rev. F; PackageVersion: 060506-A, 06/2006; PackageReference: R-8; PackageDescription: 8-Pin Standard Small Outline Package, Body 4.9 x 3.9 mm, Pitch 1.27 mm; Supplier 1: Digi-Key; Supplier Part Number 1: AD780BR-ND; Supplier 2: Mouser; Supplier Part Number 2: 584-AD780BR; Packing: Tube; Operating Temp Range: -40 to 85 degC; Mounting Technology: Surface Mount; Code_JEDEC: MS-012-AA; ComponentLink1Description: Manufacturer URL; ComponentLink1URL: http://www.analog.com/en/index.html; ComponentLink2Description: Datasheet; ComponentLink2URL: http://www.analog.com/static/imported-files/data_sheets/AD780.pdf; ComponentLink3Description: Package Specification; ComponentLink3URL: http://www.analog.com/static/imported-files/packages/PKG_PDF/SOIC_Narrow%20(R)/R_8.pdf; ComponentLink4Description: URL Link1; ComponentLink4URL: Product URL:http://www.analog.com/en/special-linear-functions/voltage-references/ad780/products/product.html
footprint ADI-R-8_N (SOIC, 8-Leads, Body 4.9x3.9mm, Pitch 1.27mm, IPC Medium Density)
footprint ADI-R-8_L (SOIC, 8-Leads, Body 4.9x3.9mm, Pitch 1.27mm, IPC High Density)
footprint ADI-R-8_M (SOIC, 8-Leads, Body 4.9x3.9mm, Pitch 1.27mm, IPC Low Density)
pins: 1 NC, 2 +VIN (power), 3 TEMP (out), 4 GND (power), 5 TRIM (in), 6 VOUT (power), 7 NC, 8 2.5V/3.0V O/P SELECT (in)

## AD780BR-REEL
designator U?
High Precision Reference, 2.5 or 3 V Output, 4 to 36 V Supply, Industrial, 8-pin SOIC (R-8), Reel; Manufacturer: Analog Devices; PartNumber: AD780BR-REEL; Max V Supply (V): 36; Min V Supply (V): 4; Ref Out TC (ppm/C): 3; Vout: 2.5V, 3V; DatasheetVersion: Rev. F; PackageVersion: 060506-A, 06/2006; PackageReference: R-8; PackageDescription: 8-Pin Standard Small Outline Package, Body 4.9 x 3.9 mm, Pitch 1.27 mm; Supplier 1: Digi-Key; Supplier Part Number 1: AD780BR-REEL-ND; Supplier 2: Mouser; Supplier Part Number 2: 584-AD780BR-R; Packing: Reel; Operating Temp Range: -40 to 85 degC; Mounting Technology: Surface Mount; Code_JEDEC: MS-012-AA; ComponentLink1Description: Manufacturer URL; ComponentLink1URL: http://www.analog.com/en/index.html; ComponentLink2Description: Datasheet; ComponentLink2URL: http://www.analog.com/static/imported-files/data_sheets/AD780.pdf; ComponentLink3Description: Package Specification; ComponentLink3URL: http://www.analog.com/static/imported-files/packages/PKG_PDF/SOIC_Narrow%20(R)/R_8.pdf; ComponentLink4Description: URL Link1; ComponentLink4URL: Product URL:http://www.analog.com/en/special-linear-functions/voltage-references/ad780/products/product.html
footprint ADI-R-8_N (SOIC, 8-Leads, Body 4.9x3.9mm, Pitch 1.27mm, IPC Medium Density)
footprint ADI-R-8_L (SOIC, 8-Leads, Body 4.9x3.9mm, Pitch 1.27mm, IPC High Density)
footprint ADI-R-8_M (SOIC, 8-Leads, Body 4.9x3.9mm, Pitch 1.27mm, IPC Low Density)
pins: 1 NC, 2 +VIN (power), 3 TEMP (out), 4 GND (power), 5 TRIM (in), 6 VOUT (power), 7 NC, 8 2.5V/3.0V O/P SELECT (in)

## AD780BR-REEL7
designator U?
High Precision Reference, 2.5 or 3 V Output, 4 to 36 V Supply, Industrial, 8-pin SOIC (R-8), Reel; Manufacturer: Analog Devices; PartNumber: AD780BR-REEL7; Max V Supply (V): 36; Min V Supply (V): 4; Ref Out TC (ppm/C): 3; Vout: 2.5V, 3V; DatasheetVersion: Rev. F; PackageVersion: 060506-A, 06/2006; PackageReference: R-8; PackageDescription: 8-Pin Standard Small Outline Package, Body 4.9 x 3.9 mm, Pitch 1.27 mm; Supplier 1: Digi-Key; Supplier Part Number 1: AD780BR-REEL7-ND; Supplier 2: Mouser; Supplier Part Number 2: 584-AD780BR-R7; Packing: Reel; Operating Temp Range: -40 to 85 degC; Mounting Technology: Surface Mount; Code_JEDEC: MS-012-AA; ComponentLink1Description: Manufacturer URL; ComponentLink1URL: http://www.analog.com/en/index.html; ComponentLink2Description: Datasheet; ComponentLink2URL: http://www.analog.com/static/imported-files/data_sheets/AD780.pdf; ComponentLink3Description: Package Specification; ComponentLink3URL: http://www.analog.com/static/imported-files/packages/PKG_PDF/SOIC_Narrow%20(R)/R_8.pdf; ComponentLink4Description: URL Link1; ComponentLink4URL: Product URL:http://www.analog.com/en/special-linear-functions/voltage-references/ad780/products/product.html
footprint ADI-R-8_N (SOIC, 8-Leads, Body 4.9x3.9mm, Pitch 1.27mm, IPC Medium Density)
footprint ADI-R-8_L (SOIC, 8-Leads, Body 4.9x3.9mm, Pitch 1.27mm, IPC High Density)
footprint ADI-R-8_M (SOIC, 8-Leads, Body 4.9x3.9mm, Pitch 1.27mm, IPC Low Density)
pins: 1 NC, 2 +VIN (power), 3 TEMP (out), 4 GND (power), 5 TRIM (in), 6 VOUT (power), 7 NC, 8 2.5V/3.0V O/P SELECT (in)

## AD780BRZ
designator U?
High Precision Reference, 2.5 or 3 V Output, 4 to 36 V Supply, Industrial, 8-pin SOIC (R-8), Tube; Manufacturer: Analog Devices; PartNumber: AD780BRZ; Max V Supply (V): 36; Min V Supply (V): 4; Ref Out TC (ppm/C): 3; Vout: 2.5V, 3V; DatasheetVersion: Rev. F; PackageVersion: 060506-A, 06/2006; PackageReference: R-8; PackageDescription: 8-Pin Standard Small Outline Package, Body 4.9 x 3.9 mm, Pitch 1.27 mm; Supplier 1: Digi-Key; Supplier Part Number 1: AD780BRZ-ND; Supplier 2: Mouser; Supplier Part Number 2: 584-AD780BRZ; Packing: Tube; Operating Temp Range: -40 to 85 degC; Mounting Technology: Surface Mount; Code_JEDEC: MS-012-AA; ComponentLink1Description: Manufacturer URL; ComponentLink1URL: http://www.analog.com/en/index.html; ComponentLink2Description: Datasheet; ComponentLink2URL: http://www.analog.com/static/imported-files/data_sheets/AD780.pdf; ComponentLink3Description: Package Specification; ComponentLink3URL: http://www.analog.com/static/imported-files/packages/PKG_PDF/SOIC_Narrow%20(R)/R_8.pdf; ComponentLink4Description: URL Link1; ComponentLink4URL: Product URL:http://www.analog.com/en/special-linear-functions/voltage-references/ad780/products/product.html
footprint ADI-R-8_N (SOIC, 8-Leads, Body 4.9x3.9mm, Pitch 1.27mm, IPC Medium Density)
footprint ADI-R-8_L (SOIC, 8-Leads, Body 4.9x3.9mm, Pitch 1.27mm, IPC High Density)
footprint ADI-R-8_M (SOIC, 8-Leads, Body 4.9x3.9mm, Pitch 1.27mm, IPC Low Density)
pins: 1 NC, 2 +VIN (power), 3 TEMP (out), 4 GND (power), 5 TRIM (in), 6 VOUT (power), 7 NC, 8 2.5V/3.0V O/P SELECT (in)